# Altium schematic symbol library SCH - IC-IMU - LSM9DS1.SchLib: 1 symbol
Pins are listed as number, name and electrical type; pins without a type are passive.

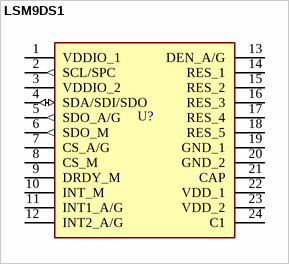
[diagram p0: symbol LSM9DS1]

## LSM9DS1
designator U?
pins: 1 VDDIO_1 (power), 2 SCL/SPC (out), 3 VDDIO_2 (power), 4 SDA/SDI/SDO (io), 5 SDO_A/G (out), 6 SDO_M (out), 7 CS_A/G, 8 CS_M, 9 DRDY_M, 10 INT_M, 11 INT1_A/G, 12 INT2_A/G, 13 DEN_A/G, 14 RES_1 (power), 15 RES_2 (power), 16 RES_3 (power), 17 RES_4 (power), 18 RES_5 (power), 19 GND_1 (power), 20 GND_2 (power), 21 CAP (power), 22 VDD_1 (power), 23 VDD_2 (power), 24 C1